# EAGLE library part SD_HALTER (library custom)
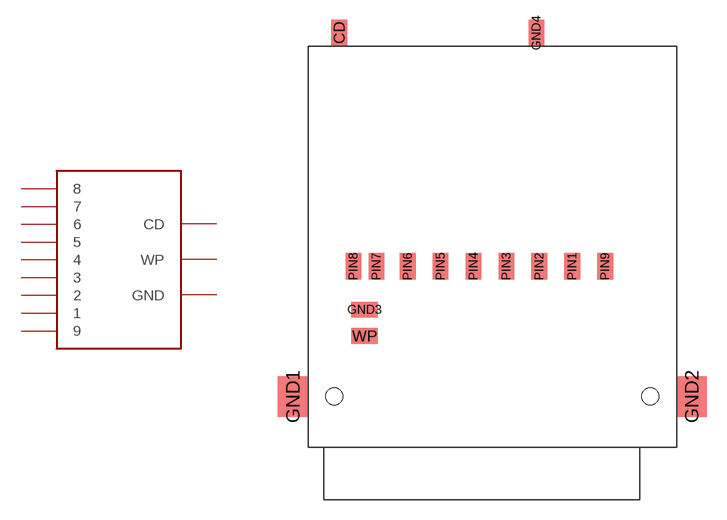
[diagram p6: symbol with the pads of SD_HALTER; footprint SD_HALTER]

Designator prefix -

## SD_HALTER  [SD_HALTER]
CD  CD
GND1  GND  pwr
GND2  GND  pwr
GND3  GND  pwr
GND4  GND  pwr
PIN1  1
PIN2  2
PIN3  3
PIN4  4
PIN5  5
PIN6  6
PIN7  7
PIN8  8
PIN9  9
WP  WP

## Footprint SD_HALTER (pad centres in mm)
smd 1.2 x 2: CD 2.37,31.5; GND4 17.35,31.5; PIN1 20.07,13.75; PIN2 17.57,13.75; PIN3 15.07,13.75; PIN4 12.57,13.75; PIN5 10.07,13.75; PIN6 7.57,13.75; PIN7 5.2,13.75; PIN8 3.45,13.75; PIN9 22.57,13.75
smd 2.3 x 3.1: GND1 -1.15,3.85; GND2 29.15,3.85
smd 2 x 1.2: GND3 4.3,10.45; WP 4.3,8.45
hole 1.3 at 2,3.85
hole 1.3 at 26,3.85